# Altium footprint library Diode_SOT-23-3_2P_Bidirectional_Type_1.PcbLib: 1 footprints
Each footprint in its own frame and in the unit in brackets; x right, y up, seen from the top. Pads: shape width x height; smd on the part's side, far side on the other; paste and mask are expansions set on the pad; w line width, h text height; cw(c..) or ccw(c..) is an arc to the next point about the centre after c.
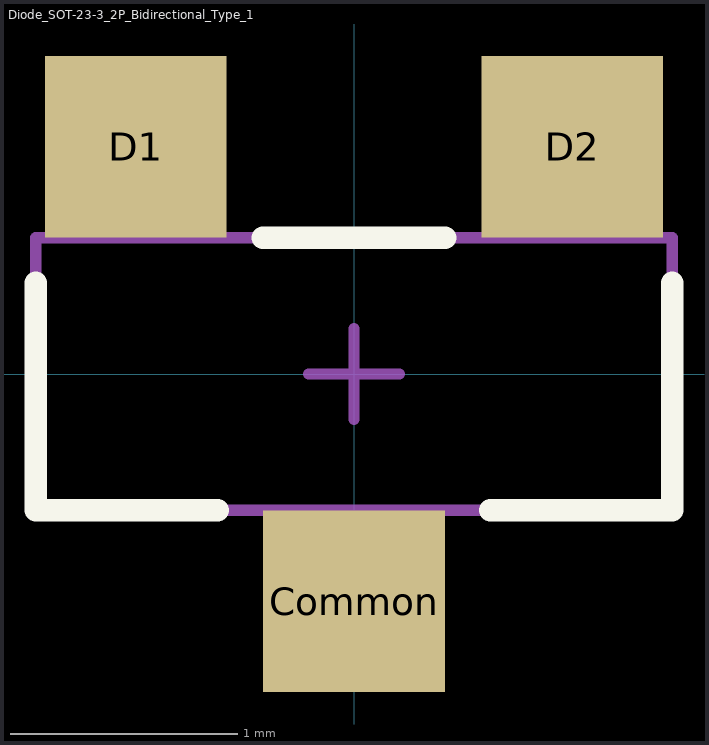
[diagram p0: the footprint, top view; thin cyan lines are the x and y axes]

## Diode_SOT-23-3_2P_Bidirectional_Type_1 [mm] "Diode_SOT-23-3_2P_Bidirectional_Type_1"
height 1
pads (3):
  rect 0.8x0.8 smd mask+0.05: Common(0,-1) D1(-0.96,1) D2(0.96,1)
Top Overlay:
  lines w0.1: -1.4,0.4 -1.4,-0.6 -0.6,-0.6 ; -0.4,0.6 0.4,0.6 ; 0.6,-0.6 1.4,-0.6 1.4,0.4
Top Assembly:
  lines w0.05: -1.4,-0.6 -1.4,0.6 1.4,0.6 1.4,-0.6 -1.4,-0.6
Top Designator:
  text ".Designator" at -1.5,-2.212 h1
Top Component Center:
  lines w0.05: -0.2,0 0.2,0 ; 0,-0.2 0,0.2
3D body "SOT-23-3.step": height 1.03, standoff 0.01, extent -1.46,-1.226 1.46,1.25